# EAGLE library part LM2678 (library Robot_MT)
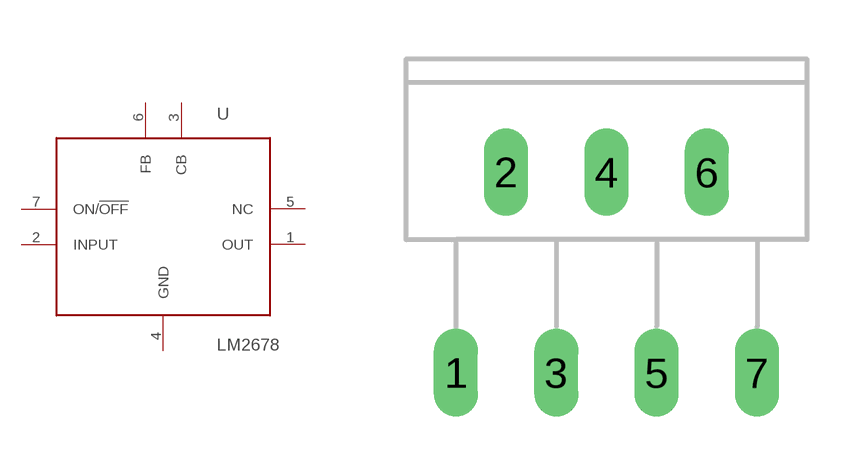
[diagram p1: symbol with the pads of TO-220-7; footprint TO-220-7]

Designator prefix -

## LM2678 (OC_FARNELL: 9778357)  [TO-220-7]
1  OUT
2  INPUT
3  CB
4  GND
5  NC
6  FB
7  ON/!OFF!

## Footprint TO-220-7 (pad centres in mm)
drill 0.6 long: 1 -3.81,-5.08; 2 -2.54,0; 3 -1.27,-5.08; 4 0,0; 5 1.27,-5.08; 6 2.54,0; 7 3.81,-5.08